# EAGLE library part TTP226 (library drag-semiconductors)
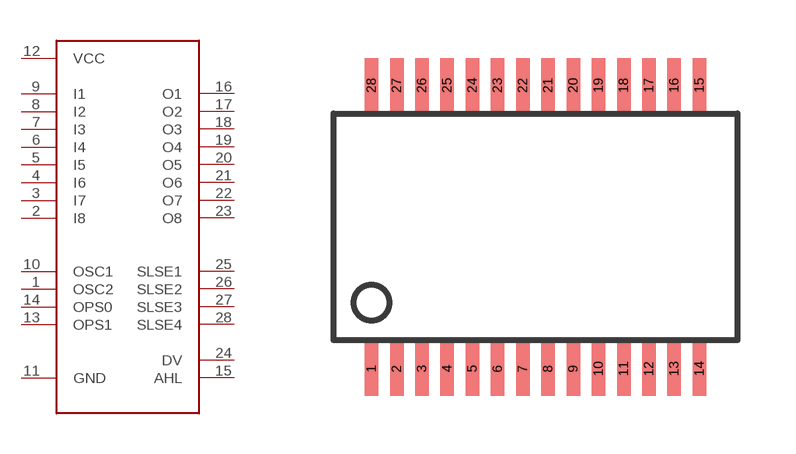
[diagram p4: symbol with the pads of SSOP28; footprint SSOP28]

Designator prefix U

## TTP226  [SSOP28]
1  OSC2
2  I8
3  I7
4  I6
5  I5
6  I4
7  I3
8  I2
9  I1
10  OSC1
11  GND
12  VCC
13  OPS1
14  OPS0
15  AHL
16  O1
17  O2
18  O3
19  O4
20  O5
21  O6
22  O7
23  O8
24  DV
25  SLSE1
26  SLSE2
27  SLSE3
28  SLSE4

## Footprint SSOP28 (pad centres in mm)
smd 0.348 x 1.397: 1 -4.225,-3.656; 2 -3.575,-3.656; 3 -2.925,-3.656; 4 -2.275,-3.656; 5 -1.625,-3.656; 6 -0.975,-3.656; 7 -0.325,-3.656; 8 0.325,-3.656; 9 0.975,-3.656; 10 1.625,-3.656; 11 2.275,-3.656; 12 2.925,-3.656; 13 3.575,-3.656; 14 4.225,-3.656; 15 4.225,3.656; 16 3.575,3.656; 17 2.925,3.656; 18 2.275,3.656; 19 1.625,3.656; 20 0.975,3.656; 21 0.325,3.656; 22 -0.325,3.656; 23 -0.975,3.656; 24 -1.625,3.656; 25 -2.275,3.656; 26 -2.925,3.656; 27 -3.575,3.656; 28 -4.225,3.656